# Altium footprint library inductors.PCBLIB: 83 footprints (part 1 of 6)
Each footprint in its own frame and in the unit in brackets; x right, y up, seen from the top. Pads: shape width x height; smd on the part's side, far side on the other; paste and mask are expansions set on the pad; w line width, h text height; cw(c..) or ccw(c..) is an arc to the next point about the centre after c.
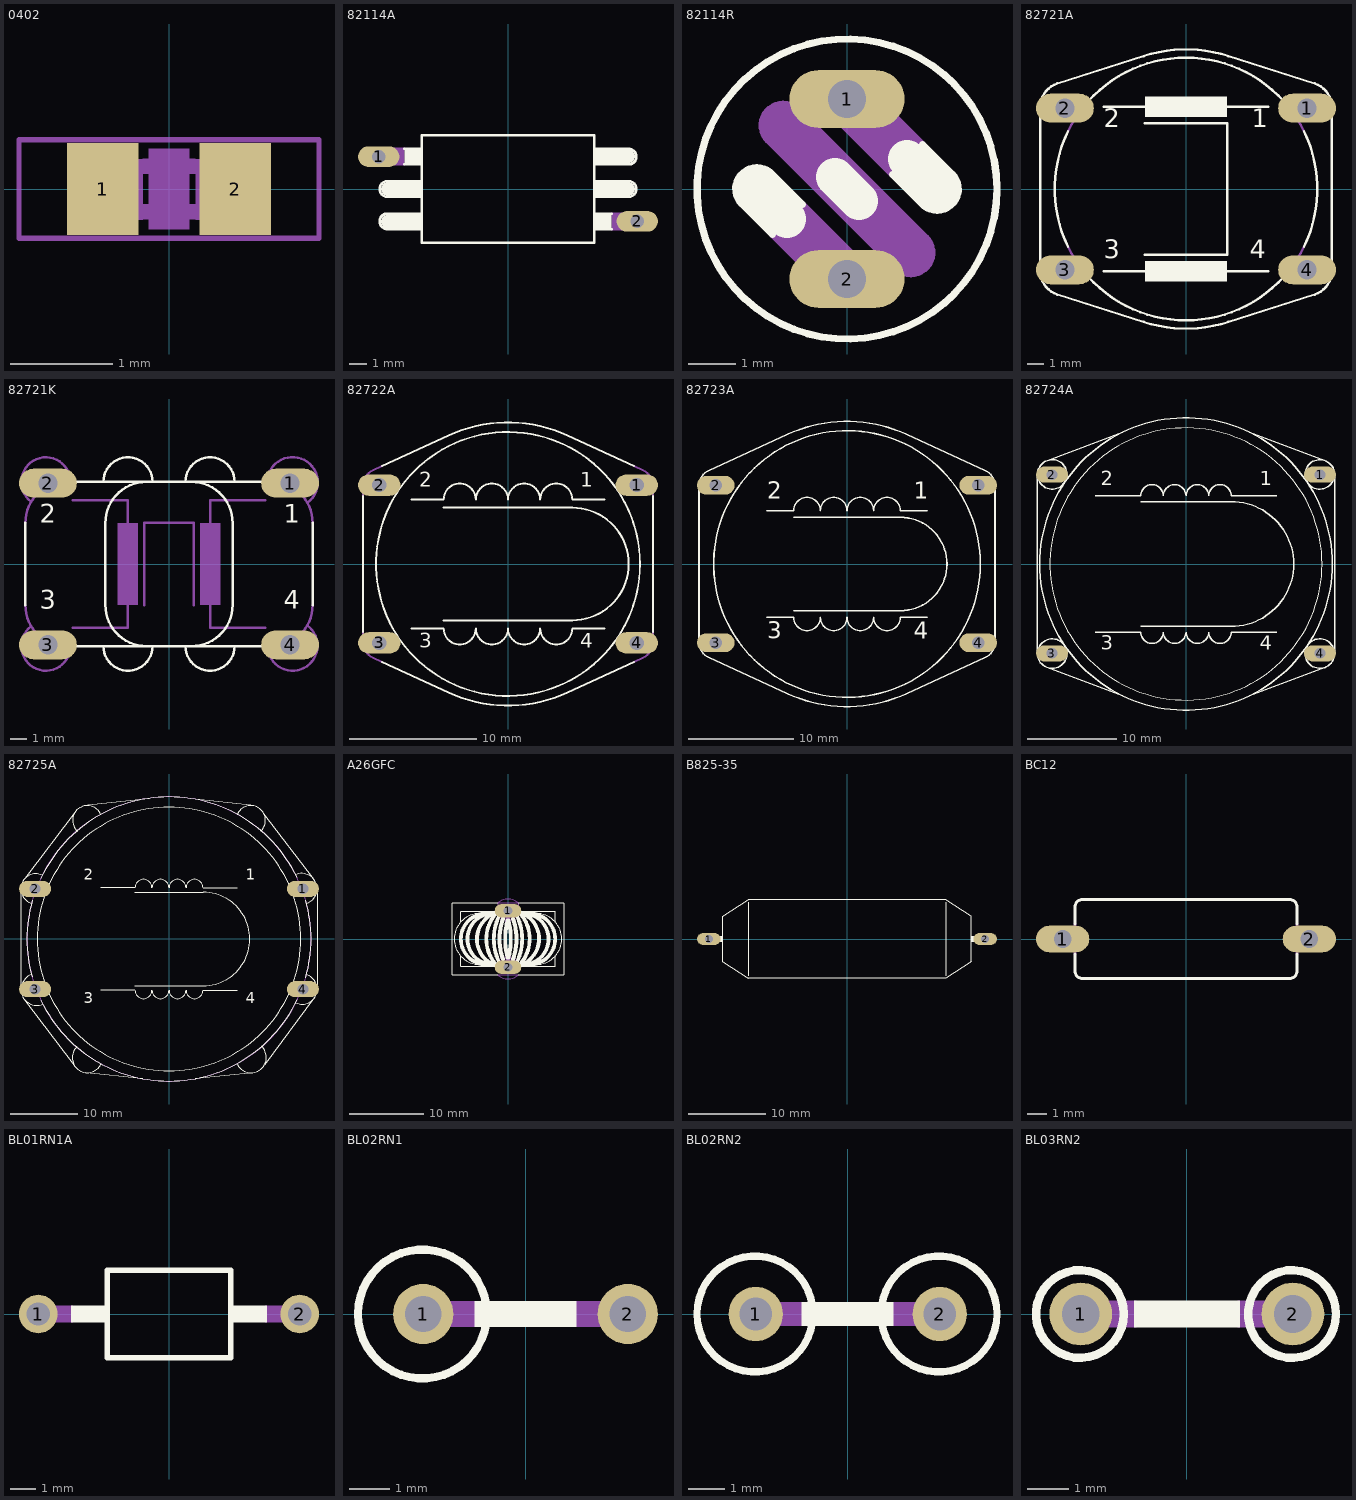
[diagram p0: the footprints below, top view; thin cyan lines are the x and y axes]

## 0402 [mm]
pads (2):
  rect 0.7x0.9 smd: 1(-0.65,0) 2(0.65,0)
Mechanical 6:
  rectangle: -0.2,-0.4 0.2,0.4
Mechanical 16:
  rectangle: -0.554,-0.305 -0.254,0.295
  rectangle: 0.259,-0.305 0.559,0.295
  lines w0.152: -0.245,-0.224 0.245,-0.224 ; -0.245,0.224 0.245,0.224
Mechanical 27:
  lines w0.051: -1.473,-0.483 1.473,-0.483 1.473,0.483 -1.473,0.483 -1.473,-0.483

## 82114A [mil]
pads (2):
  oval 96x48 hole 32: 1(-300,75) 2(300,-75)
Top Overlay:
  rectangle: -240,55 -200,95
  rectangle: -225,-20 -200,20
  rectangle: 200,-95 240,-55
  rectangle: 200,-20 225,20
  rectangle: 200,55 225,95
  rectangle: -225,-95 -200,-55
  lines w6: -241,57 -200,57 ; -241,93 -200,93 ; 241,-93 200,-93 ; 241,-57 200,-57 ; -200,-93 -200,-125 200,-125 200,-93 ; -200,-93 -280,-93 cw(c-280,-75) -280,-57 -200,-57 ; -200,-93 -200,-57 ; -200,-57 -200,-18 ; -200,-18 -280,-18 cw(c-280,0) -280,18 -200,18 ; -200,-18 -200,18 ; -200,18 -200,57 ; -200,57 -200,93 ; -200,93 -200,125 200,125 200,93 ; 200,-93 200,-57 ; 200,-57 200,-18 ; 200,-18 280,-18 ccw(c280,0) 280,18 200,18 ; 200,-18 200,18 ; 200,18 200,57 ; 200,57 280,57 ccw(c280,75) 280,93 200,93 ; 200,57 200,93
  lines w30: -280,-75 -225,-75 ; -280,0 -225,0 ; 225,0 280,0 ; 225,75 280,75
Mechanical 16:
  rectangle: -255,55 -240,95
  rectangle: 240,-95 255,-55
  lines w6: -241,57 -300,57 cw(c-300,75) -300,93 -241,93 ; 241,-93 300,-93 ccw(c300,-75) 300,-57 241,-57
  lines w30: -300,75 -255,75 ; 255,-75 300,-75

## 82114R [mil]
pads (2):
  oval 96x48 hole 32: 1(0,75) 2(0,-75)
Top Overlay:
  circle w6: c0,0 r125
  lines w6: -87.51,-12.51 cw(c-75,0) -62,12 -37,-13 ; -87,-13 -62,-38 ; 38,12 63,-13 ; 62,-12 ccw(c75,0) 87.51,12.51 ; 63,37 88,12
  lines w32: -75,0 -50,-25 ; -10,10 10,-10 ; 50,25 75,0
Mechanical 16:
  lines w6: -65.51,40.49 cw(c-53,53) -40,65 65,-40 ; -65,40 40,-65 ccw(c53,-53) 65.51,-40.49 ; -62,-38 -12,-88 ; -37,-13 13,-63 ; -13,-87 ccw(c0,-75) 12.51,-62.49 ; -12.51,62.49 cw(c0,75) 13,87 63,37 ; -12,62 38,12
  lines w32: -55,55 -10,10 ; -50,-25 0,-75 ; 0,75 50,25 ; 10,-10 55,-55

## 82721A [mil]
pads (4):
  oval 141x70.5 hole 47: 1(295,197) 2(-295,197) 3(-295,-197) 4(295,-197)
Top Overlay:
  rectangle: -100,175 100,225
  rectangle: -100,-225 100,-175
  lines w6: -287.52,-140.47 cw(c0.01,0) -287.52,140.47 ; -236.93,-215.09 ccw(c0,0) 236.93,-215.09 ; -236.93,215.09 cw(c0,0) 236.93,215.09 ; -200,-200 -100,-200 ; -200,200 -100,200 ; -100,-160 100,-160 100,160 -100,160 ; 100,-200 200,-200 ; 100,200 200,200 ; 287.52,-140.47 ccw(c-0.01,0) 287.52,140.47 ; -355,-200 -355,200 cw(c-295,199.99) -313.19,257.17 -103.03,324.02 cw(c0.01,0.01) 103.06,324.02 313.19,257.17 cw(c295,199.99) 355,199.99 355,-200 cw(c295,-199.99) 313.19,-257.17 103.03,-324.02 cw(c0.01,-0.01) -103.03,-324.02 -313.19,-257.17 cw(c-295,-199.99) -355,-199.99
  text "1" at 160,135 h77.5
  text "2" at -200,135 h77.5
  text "3" at -200,-185 h77.5
  text "4" at 155,-185 h77.5
Mechanical 16:
  lines w6: -287.52,-140.47 ccw(c0,0) -236.93,-215.09 ; -287.52,140.47 cw(c-0.01,0.01) -236.93,215.09 ; 236.93,-215.09 ccw(c0.01,-0.01) 287.52,-140.47 ; 236.93,215.09 cw(c0,0) 287.52,140.47

## 82721K [mil]
pads (4):
  oval 141x70.5 hole 47: 1(295,197) 2(-295,197) 3(-295,-197) 4(295,-197)
Top Overlay:
  lines w6: -350,-100 -350,100 ; -240,-200 240,-200 ; -240,200 240,200 ; -160,-200 ccw(c-100,-200) -40,-200 ; -160,200 cw(c-100,200) -40,200 ; -55,-200 cw(c-55,-100) -155,-100 -155,100 cw(c-55,100) -55,200 ; 40,-200 ccw(c100,-200) 160,-200 ; 40,200 cw(c100,200) 160,200 ; 55,-200 ccw(c55,-100) 155,-100 155,100 ccw(c55,100) 55,200 ; 350,-100 350,100
  text "1" at 280,85 h77.5
  text "4" at 280,-125 h77.5
  text "2" at -315,85 h77.5
  text "3" at -315,-125 h77.5
Mechanical 16:
  rectangle: 75,-100 125,100
  rectangle: -125,-100 -75,100
  lines w6: -350,-100 ccw(c-250,-100) -250,-200 -240,-200 cw(c-300,-200) -336,-152 ; -350,100 cw(c-250,100) -250,200 -240,200 ccw(c-300,200) -336,152 ; -235,-155 -100,-155 -100,-100 ; -235,155 -100,155 -100,100 ; -60,-100 -60,100 60,100 60,-100 ; 100,-100 100,-155 235,-155 ; 100,100 100,155 235,155 ; 239.4,200.01 cw(c301,199) 337,149 ; 240,200 250,200 cw(c250,100) 350,100 ; 336.65,-149.49 cw(c301,-199) 240,-200 250,-200 ccw(c250,-100) 350,-100

## 82722A [mil]
pads (4):
  oval 132x66 hole 44: 1(400,245) 2(-400,245) 3(-400,-245) 4(400,-245)
Top Overlay:
  circle w6: c0,0 r410
  lines w6: -450,-211.85 -450,211.85 ; -390.83,-304.29 -184.29,-399.57 ccw(c-0.02,-0.02) 184.25,-399.57 ; -390.83,304.29 -184.29,399.57 cw(c-0.02,0.02) 184.25,399.57 ; -300,-200 -200,-200 ccw(c-150,-200) -100,-200 ccw(c-50,-200) 0,-200 ccw(c50,-200) 100,-200 ccw(c150,-200) 200,-200 300,-200 ; -300,200 -200,200 cw(c-150,200) -100,200 cw(c-50,200) 0,200 cw(c50,200) 100,200 cw(c150,200) 200,200 300,200 ; -200,-175 200,-175 ccw(c200,0) 200,175 -200,175 ; 184.29,-399.57 390.83,-304.29 ; 184.29,399.57 390.83,304.29 ; 450,-211.85 450,211.85
  text "1" at 225,225 h77.5
  text "2" at -275,225 h77.5
  text "3" at -275,-275 h77.5
  text "4" at 225,-275 h77.5
Mechanical 16:
  lines w6: -450,-211.85 -450,-245 ccw(c-400,-244.99) -420.94,-290.39 -390.83,-304.29 ; -450,211.85 -450,245 cw(c-400,244.99) -420.94,290.39 -390.83,304.29 ; 390.83,-304.29 420.94,-290.39 ccw(c400,-244.99) 450,-244.99 450,-211.85 ; 390.83,304.29 420.94,290.39 cw(c400,244.99) 450,244.99 450,211.85

## 82723A [mil]
pads (4):
  oval 141x70.5 hole 47: 1(492,295) 2(-492,295) 3(-492,-295) 4(492,-295)
Top Overlay:
  circle w6: c0,0 r500
  lines w6: -300,-200 -200,-200 ccw(c-150,-200) -100,-200 ccw(c-50,-200) 0,-200 ccw(c50,-200) 100,-200 ccw(c150,-200) 200,-200 300,-200 ; -300,200 -200,200 cw(c-150,200) -100,200 cw(c-50,200) 0,200 cw(c50,200) 100,200 cw(c150,200) 200,200 300,200 ; -200,-175 200,-175 ccw(c200,0) 200,175 -200,175 ; 223.77,-485.94 cw(c-0.01,0.01) -223.78,-485.94 -520.08,-349.49 cw(c-494.98,-294.99) -554.98,-294.99 -555,295 cw(c-494.98,294.99) -520.08,349.49 -223.78,485.94 cw(c-0.01,-0.01) 223.77,485.94 ; 223.78,-485.94 520.08,-349.49 ccw(c494.98,-294.99) 554.98,-294.99 555,295 ccw(c494.98,294.99) 520.08,349.49 223.78,485.94
  text "1" at 250,225 h108.5
  text "2" at -300,225 h108.5
  text "3" at -300,-300 h108.5
  text "4" at 250,-300 h108.5

## 82724A [mil]
pads (4):
  oval 141x70.5 hole 47: 1(591,394) 2(-591,394) 3(-591,-394) 4(591,-394)
Top Overlay:
  circle w6: c0,0 r645
  circle w2: c0,0 r600
  lines w6: -655,-395 -655,398 ; -615,-455 -280,-580 ; -612,455 -280,580 ; -541.54,-351.39 ccw(c-590,-394.99) -535,-360 ; -535,360 cw(c-590.05,394.93) -533.4,362.66 ; -400,-300 -200,-300 ccw(c-150,-300) -100,-300 ccw(c-50,-300) 0,-300 ccw(c50,-300) 100,-300 ccw(c150,-300) 200,-300 400,-300 ; -400,300 -200,300 cw(c-150,300) -100,300 cw(c-50,300) 0,300 cw(c50,300) 100,300 cw(c150,300) 200,300 400,300 ; -200,-275 200,-275 ccw(c200,0) 200,275 -200,275 ; 280,-580 615,-455 ; 280,580 615,455 ; 530,-370 ccw(c589.99,-395.01) 541.69,-351.52 ; 530,370 cw(c590,395.01) 544.04,349.04 ; 655,-395 655,395
  text "1" at 325,325 h108.5
  text "2" at -375,325 h108.5
  text "3" at -375,-400 h108.5
  text "4" at 325,-400 h108.5

## 82725A [mil]
pads (4):
  oval 189x94.5 hole 63: 1(787,295) 2(-787,295) 3(-787,-295) 4(787,-295)
Top Overlay:
  circle w2: c0,0 r775
  lines w6: -870,-295 -870,298 ; -850,-355 -555,-745 ; -847,355 -545,755 ; -810,-210 ccw(c-777,-296.99) -740.94,-382.76 ; -805.02,209.92 cw(c-782,295) -745,375 ; -804.61,-223.22 cw(c0.01,0) -835,0 cw(c-0.01,-0.01) -803.6,226.82 ; -753.05,-360.74 ccw(c0.01,0) 0,-835 ccw(c-2,0) 753.44,-355.72 ; -752.27,358.2 cw(c2,0) 0,835 cw(c0,0) 752.47,361.95 ; -541.59,-633.35 ccw(c-480,-697) -400,-735 ; -538.21,632.96 cw(c-480,697) -400,730 ; -492,-785 -155,-820 ; -477,785 -115,825 ; -400,-300 -200,-300 ccw(c-150,-300) -100,-300 ccw(c-50,-300) 0,-300 ccw(c50,-300) 100,-300 ccw(c150,-300) 200,-300 400,-300 ; -400,300 -200,300 cw(c-150,300) -100,300 cw(c-50,300) 0,300 cw(c50,300) 100,300 cw(c150,300) 200,300 400,300 ; -200,-275 200,-275 ccw(c200,0) 200,275 -200,275 ; 153,-820 500,-785 ; 153,820 480,785 ; 399.76,-732.82 ccw(c481.99,-695) 544.99,-630.01 ; 400,730 cw(c480,697) 540.26,634.88 ; 555,740 850,350 ; 563,-740 855,-345 ; 743.87,377.58 cw(c780,294.99) 810,209.99 ; 745,-375 ccw(c782,-294.99) 805.02,-209.9 ; 803.26,228.02 cw(c0.01,-0.01) 835,0 cw(c0,-0.02) 803.65,-226.67 ; 870,-300 870,300
  text "1" at 450,325 h108.5
  text "2" at -500,325 h108.5
  text "3" at -500,-400 h108.5
  text "4" at 450,-400 h108.5
Mechanical 16:
  circle w6: c0,0 r835

## A26GFC [mil]
pads (2):
  oval 141x70.5 hole 47: 1(0,150) 2(0,-150)
Top Overlay:
  lines w6: -250,-90 -250,-145 -55,-145 ; -250,90 -250,145 -55,145 ; -150,-135 cw(c-150,0) -150,135 ; -55,-190 -295,-190 -295,190 -55,190 ; 55,-190 295,-190 295,190 55,190 ; 55,-145 250,-145 250,-90 ; 55,145 250,145 250,90 ; 150,-135 ccw(c150,0) 150,135
  lines w20: -115,-135 cw(c-115,0) -115,135 ; -80,-135 cw(c-80,0) -80,135 ; -75.94,137.26 ccw(c-7,-5) -165,0 ccw(c-15,0) -74.81,-137.56 ; -60.63,-139.05 cw(c90.01,0) -115,0 cw(c90,0) -58.82,140.99 ; -47.03,-123.58 cw(c211.99,0) -75,0 cw(c211.99,0) -47.03,123.58 ; -26.41,-107.81 cw(c277,0.02) -45,0 cw(c277,0) -26.24,108.3 ; -2.91,98.23 ccw(c390.01,0.01) -15,0 ccw(c390.01,0) -2.56,-99.61 ; 2.56,99.61 cw(c-390.01,0) 15,0 cw(c-390.01,-0.01) 2.91,-98.23 ; 26.24,-108.3 ccw(c-277,0) 45,0 ccw(c-277,-0.02) 26.41,107.81 ; 47.03,-123.58 ccw(c-211.99,0) 75,0 ccw(c-211.99,0) 47.03,123.58 ; 58.82,-139.99 ccw(c-90,1) 115,1 ccw(c-90.01,1) 60.63,140.05 ; 74.81,137.56 cw(c15,0) 165,0 cw(c7,5) 75.94,-137.26 ; 80,-135 ccw(c80,0) 80,135 ; 115,-135 ccw(c115,0) 115,135
Mechanical 16:
  lines w6: -55.21,189.81 cw(c0,130) 55,190 ; -55,-145 55,-145 ; 55,-190 -55,-190 ccw(c-0.01,-130) 55.2,-189.8 ; 55,190 55,145 -55,145 -55,190 55,190
  lines w20: -90,-135 90,-135 ; -90,135 90,135 ; -49,-117 -40,-130 ; -49,117 -43,130 ; -29,-99 -19,-125 ; -29,102 -20,126 ; -5,91 0,123 4,91 ; -4,-91 0,-123 5,-91 ; 19,125 29,99 ; 20,-126 29,-102 ; 40,130 49,117 ; 43,-130 49,-117

## B825-35 [mil]
pads (2):
  oval 120x60 hole 40: 1(-700,0) 2(700,0)
Top Overlay:
  rectangle: 630,-16 648,16
  rectangle: -648,-16 -630,16
  lines w2: -500,-185 -500,185 ; 500,-185 500,185
  lines w6: -630,-115 -630,115 -500,200 500,200 630,115 630,-115 500,-200 -500,-200 -630,-115
Mechanical 16:
  lines w32: -700,0 -650,0 ; 650,0 700,0

## BC12 [mil]
pads (2):
  oval 108x54 hole 36: 1(-250,0) 2(250,0)
Top Overlay:
  lines w6: -225,-30 -225,-65 ccw(c-210,-65) -210,-80 210,-80 ccw(c210,-65) 225,-65 225,-30 ; -225,30 -225,65 cw(c-210,65) -210,80 210,80 cw(c210,65) 225,65 225,30
Mechanical 16:
  rectangle: 225,-12 237,12
  rectangle: -237,-12 -225,12
  lines w6: -225,-30 -225,30 ; 225,-30 225,30
  lines w24: -250,0 -240,0 ; 240,0 250,0

## BL01RN1A [mil]
pads (2):
  round 59.06 hole 35.43: 1(-200,0) 2(200,0)
Top Overlay:
  rectangle: -150,-12.8 -97.44,12.8
  region: 150,12.8 97.44,12.8 97.44,-12.8 150,-12.8
  lines w8: -94.49,-66.93 94.49,-66.93 94.49,66.93 -94.49,66.93 -94.49,-66.93
Mechanical 16:
  lines w25.59: -200,0 -150,0 ; 150,0 200,0

## BL02RN1 [mil]
pads (2):
  round 59.06 hole 35.43: 1(-100,0) 2(100,0)
Top Overlay:
  circle w8: c-100.79,0 r62.99
  rectangle: -50,-12.8 50,12.8
Mechanical 16:
  lines w25.59: -100,0 -50,0 ; 50,0 100,0

## BL02RN2 [mil]
pads (2):
  round 59.06 hole 35.43: 1(-100,0) 2(100,0)
Top Overlay:
  circle w8: c-100.79,0 r62.99
  circle w8: c99.21,0 r62.99
  rectangle: -50,-12.8 50,12.8
Mechanical 16:
  lines w25.59: -100,0 -50,0 ; 50,0 100,0

## BL03RN2 [mil]
pads (2):
  round 59.06 hole 35.43: 1(-100,0) 2(100,0)
Top Overlay:
  circle w8: c-100.79,0 r41.36
  circle w8: c99.21,0 r41.36
  rectangle: -50,-12.8 50,12.8
Mechanical 16:
  lines w25.59: -100,0 -50,0 ; 50,0 100,0